# Altium schematic symbol library ADL5330ACPZ-REEL7.Schlib: 1 symbol
Pins are listed as number, name and electrical type; pins without a type are passive.

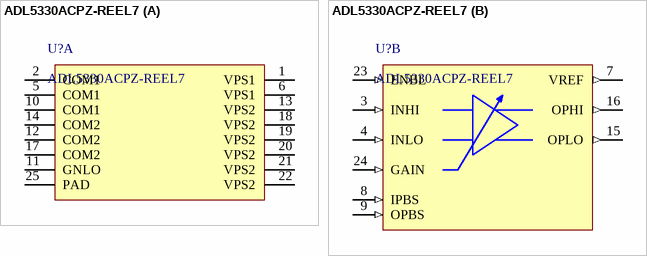
[diagram p0: symbol ADL5330ACPZ-REEL7]

## ADL5330ACPZ-REEL7
designator U?
RF Amplifier IC Cellular, CDMA2000, W-CDMA, GSM 10MHz ~ 3GHz 24-LFCSP-VQ (4x4)
part A pins: 1 VPS1 (power), 2 COM1 (power), 5 COM1 (power), 6 VPS1 (power), 10 COM1 (power), 11 GNLO (power), 12 COM2 (power), 13 VPS2 (power), 14 COM2 (power), 17 COM2 (power), 18 VPS2 (power), 19 VPS2 (power), 20 VPS2 (power), 21 VPS2 (power), 22 VPS2 (power), 25 PAD (power)
part B pins: 3 INHI (in), 4 INLO (in), 7 VREF (out), 8 IPBS (in), 9 OPBS (in), 15 OPLO (out), 16 OPHI (out), 23 ENBL (in), 24 GAIN (in)